# Altium footprint library SAMTEC_FTSH-107-01-L-DV-K-A.PcbLib: 1 footprints
Each footprint in its own frame and in the unit in brackets; x right, y up, seen from the top. Pads: shape width x height; smd on the part's side, far side on the other; paste and mask are expansions set on the pad; w line width, h text height; cw(c..) or ccw(c..) is an arc to the next point about the centre after c.
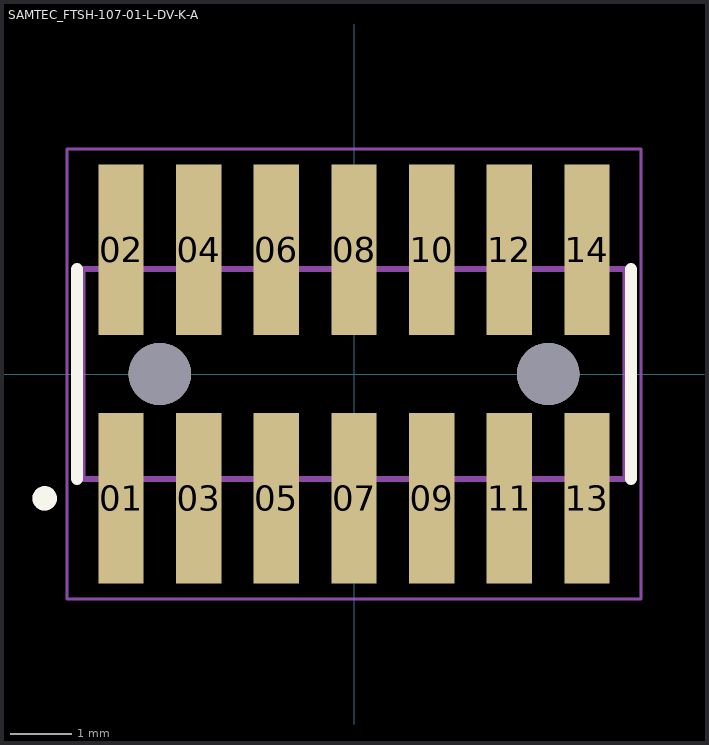
[diagram p0: the footprint, top view; thin cyan lines are the x and y axes]

## SAMTEC_FTSH-107-01-L-DV-K-A [mm]
height 6.23
pads (16):
  rect 0.74x2.79 smd: 01(-3.81,-2.035) 02(-3.81,2.035) 03(-2.54,-2.035) 04(-2.54,2.035) 05(-1.27,-2.035) 06(-1.27,2.035) 07(0,-2.035) 08(0,2.035) 09(1.27,-2.035) 10(1.27,2.035) 11(2.54,-2.035) 12(2.54,2.035) 13(3.81,-2.035) 14(3.81,2.035)
  round 1.02 hole 1.02 unplated mask+0.051: ""(-3.175,0) ""(3.175,0)
Top Overlay:
  circle w0.2: c-5.06,-2.035 r0.1
  lines w0.2: -4.53,-1.715 -4.53,1.715 ; 4.53,-1.715 4.53,1.715
Top Paste:
  region: 4.18,0.637 3.44,0.637 3.44,3.427 4.18,3.427
  region: 4.18,-3.427 3.44,-3.427 3.44,-0.637 4.18,-0.637
  region: 2.91,0.637 2.17,0.637 2.17,3.427 2.91,3.427
  region: 2.91,-3.427 2.17,-3.427 2.17,-0.637 2.91,-0.637
  region: 1.64,0.637 0.9,0.637 0.9,3.427 1.64,3.427
  region: 1.64,-3.427 0.9,-3.427 0.9,-0.637 1.64,-0.637
  region: 0.37,0.637 -0.37,0.637 -0.37,3.427 0.37,3.427
  region: 0.37,-3.427 -0.37,-3.427 -0.37,-0.637 0.37,-0.637
  region: -0.9,0.637 -1.64,0.637 -1.64,3.427 -0.9,3.427
  region: -0.9,-3.427 -1.64,-3.427 -1.64,-0.637 -0.9,-0.637
Assembly Top:
  circle w0.2: c-5.06,-2.035 r0.1
  lines w0.1: -4.445,-1.715 4.445,-1.715 4.445,1.715 -4.445,1.715 -4.445,-1.715
Courtyard Top:
  lines w0.05: -4.695,-3.68 4.695,-3.68 4.695,3.68 -4.695,3.68 -4.695,-3.68
3D body "FTSH-107-01-L-DV-K-A.stp": height 5.96, standoff -0.01, extent -4.445,-3.047 4.445,2.793